# EAGLE library part NOKIA5110 (library CustomLib)
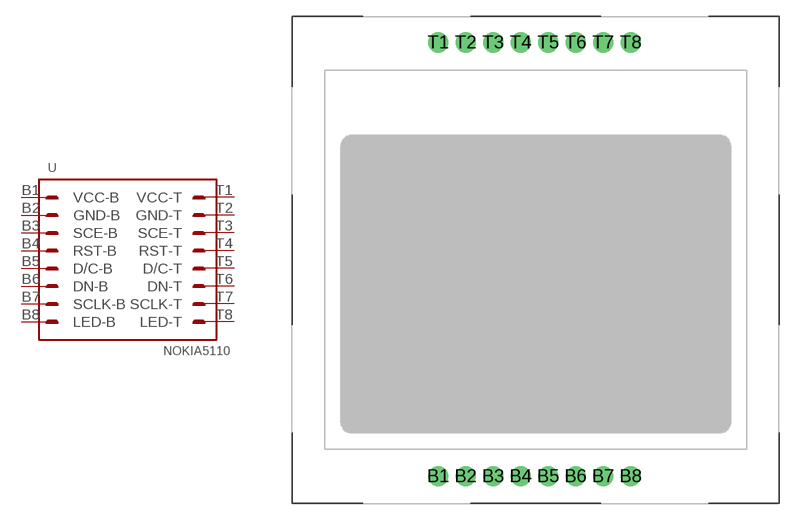
[diagram p0: symbol with the pads of NOKIA5110; footprint NOKIA5110]

Designator prefix -

## NOKIA5110  [NOKIA5110]
B1  VCC-B
B2  GND-B
B3  SCE-B
B4  RST-B
B5  D/C-B
B6  DN-B
B7  SCLK-B
B8  LED-B
T1  VCC-T
T2  GND-T
T3  SCE-T
T4  RST-T
T5  D/C-T
T6  DN-T
T7  SCLK-T
T8  LED-T

## Footprint NOKIA5110 (pad centres in mm)
drill 1.016 pad 1.88 round: B1 -0.01,0; B2 2.53,0; B3 5.07,0; B4 7.61,0; B5 10.15,0; B6 12.69,0; B7 15.23,0; B8 17.77,0; T1 -0.01,40.08; T2 2.53,40.08; T3 5.07,40.08; T4 7.61,40.08; T5 10.15,40.08; T6 12.69,40.08; T7 15.23,40.08; T8 17.77,40.08